# Altium footprint library Magnetics$.PcbLib: 44 footprints (part 2 of 3)
Each footprint in its own frame and in the unit in brackets; x right, y up, seen from the top. Pads: shape width x height; smd on the part's side, far side on the other; paste and mask are expansions set on the pad; w line width, h text height; cw(c..) or ccw(c..) is an arc to the next point about the centre after c.
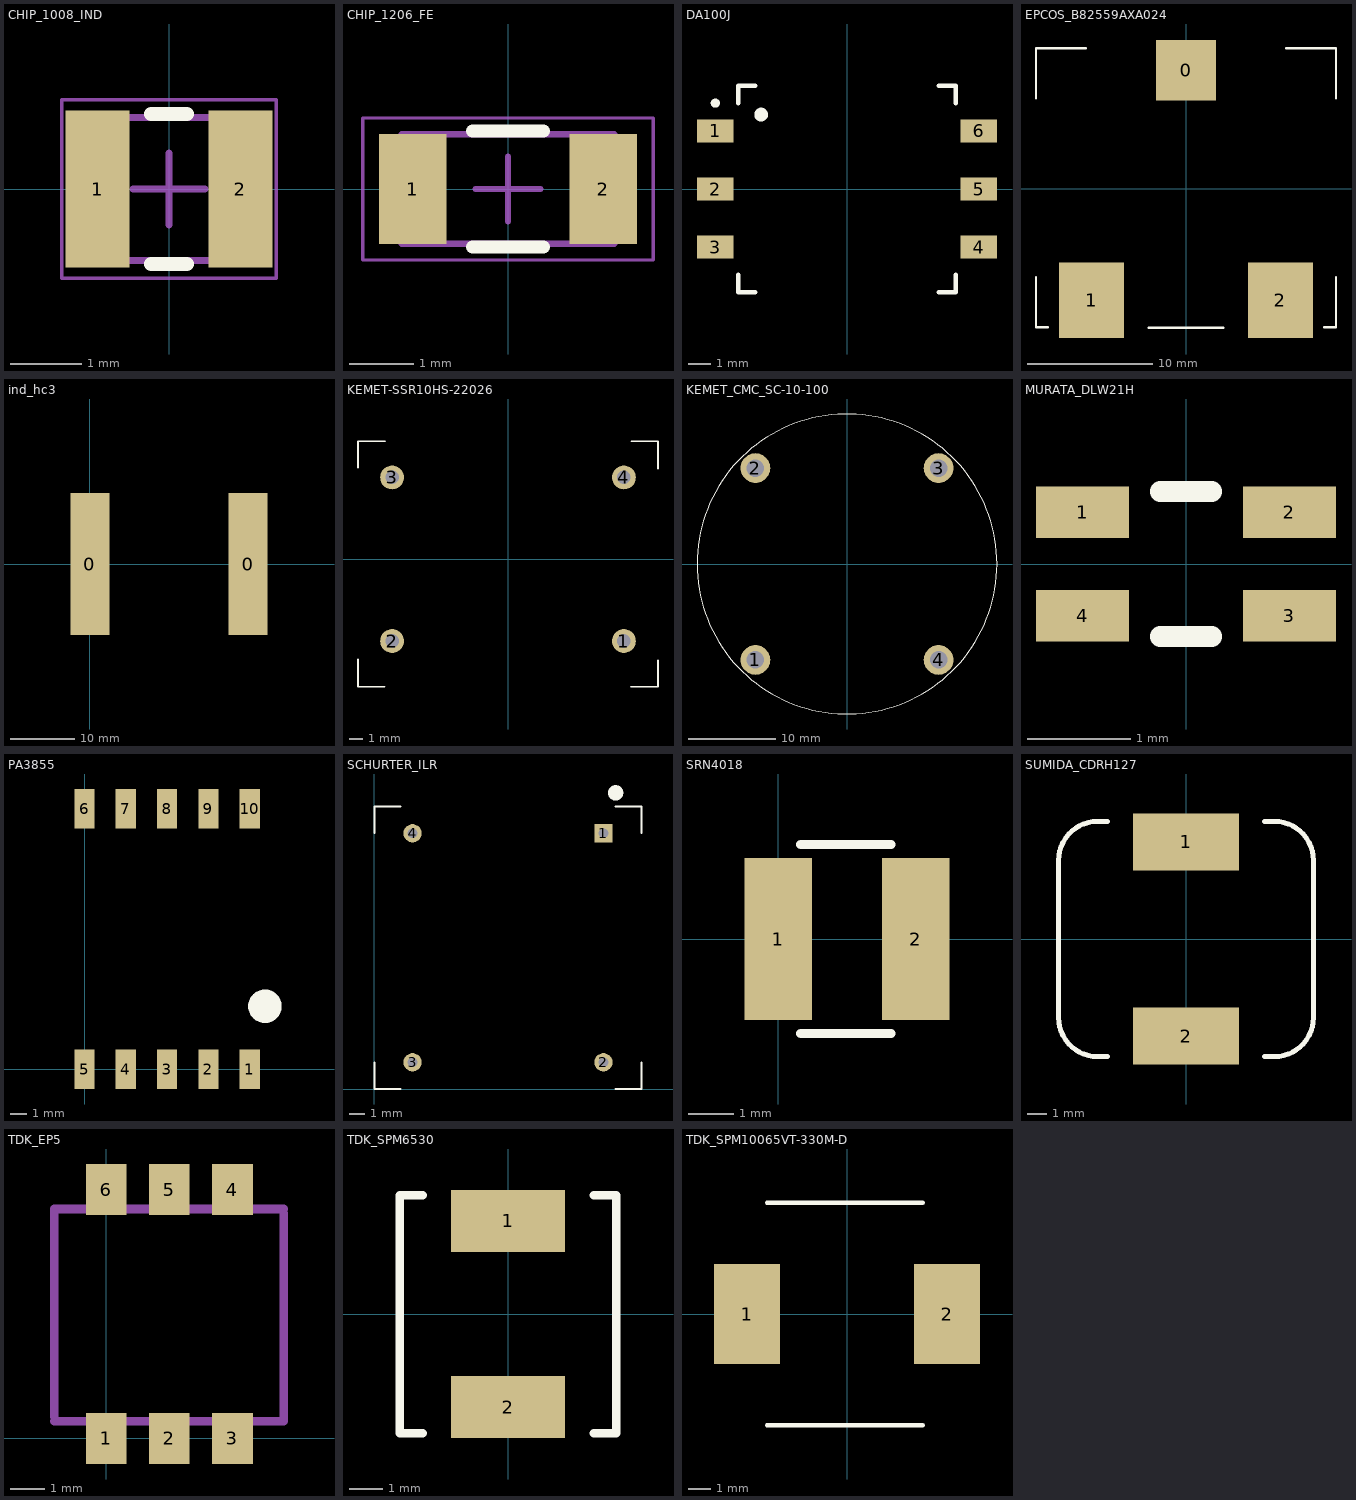
[diagram p1: the footprints below, top view; thin cyan lines are the x and y axes]

## CHIP_1008_IND [mm]
height 0.6
pads (2):
  rect 0.9x2.2 smd: 1(-1,0) 2(1,0)
Top Overlay:
  lines w0.2: -0.25,-1.05 0.25,-1.05 ; -0.25,1.05 0.25,1.05
Mechanical 13:
  lines w0.1: -1.25,-1 1.25,-1 1.25,1 -1.25,1 -1.25,-1
Mechanical 15:
  lines w0.05: -1.5,-1.25 1.5,-1.25 1.5,1.25 -1.5,1.25 -1.5,-1.25
  lines w0.1: -0.5,0 0.5,0 ; 0,-0.5 0,0.5
3D body: height 0.9, standoff 0, extent 0.65,-1 1.25,1
3D body: height 0.9, standoff 0, extent -1.25,-1 -0.65,1
3D body: height 0.85, standoff 0.03, extent -0.65,-0.975 0.65,0.975

## CHIP_1206_FE [mm] "1206 Ferrite Bead"
height 0.6
pads (2):
  rect 1.05x1.7 smd: 1(-1.475,0) 2(1.475,0)
Top Overlay:
  lines w0.2: -0.55,-0.9 0.55,-0.9 ; -0.55,0.9 0.55,0.9
Mechanical 13:
  lines w0.1: -1.65,-0.85 -1.65,0.85 1.65,0.85 1.65,-0.85 -1.65,-0.85
Mechanical 15:
  lines w0.05: -2.25,-1.1 -2.25,1.1 2.25,1.1 2.25,-1.1 -2.25,-1.1
  lines w0.1: -0.5,0 0.5,0 ; 0,-0.5 0,0.5
3D body: height 1.68, standoff 0, extent -1.15,-0.825 1.15,0.825
3D body: height 1.7, standoff 0, extent -1.65,-0.85 -1.15,0.85
3D body: height 1.7, standoff 0, extent 1.15,-0.85 1.65,0.85

## DA100J [mm] "Murata DA100J Pulse Transformer Series"
pads (6):
  rect 1.6x1 smd: 1(-5.75,2.54) 2(-5.75,0) 3(-5.75,-2.54) 4(5.75,-2.54) 5(5.75,0) 6(5.75,2.54)
Top Overlay:
  circle w0.2: c-5.75,3.75 r0.1
  circle w0.3: c-3.75,3.25 r0.15
  lines w0.2: -4.75,-3.75 -4.75,-4.5 -4,-4.5 ; -4.75,3.75 -4.75,4.5 -4,4.5 ; 4,-4.5 4.75,-4.5 4.75,-3.75 ; 4,4.5 4.75,4.5 4.75,3.75
3D body: height 6.5, standoff 0, extent -4.75,-4.5 4.75,4.5

## EPCOS_B82559AXA024 [mm]
pads (3):
  rect 4.8x4.8 smd: 0(0,9.5)
  rect 5.2x6 smd: 1(-7.55,-8.9) 2(7.55,-8.9)
Top Overlay:
  lines w0.2: -12,-7.05 -12,-11.05 -11.05,-11.05 ; -12,7.25 -12,11.25 -8,11.25 ; -3,-11.1 3,-11.1 ; 8,11.25 12,11.25 12,7.25 ; 11.05,-11.05 12,-11.05 12,-7.05
3D body "New ERU 24.stp": height 21.2, standoff -0.01, extent -11.95,-11.05 11.95,11.2

## ind_hc3 [mm] "Cooper-Eaton HC3 Indcutors"
height 18
pads (2):
  rect 6x22 all layers, no hole: 0(0,0) 0(24.5,0)

## KEMET-SSR10HS-22026 [mm] "Kemet Common Mode Choke"
pads (4):
  round 1.75 hole 1: 1(8.5,-6) 2(-8.5,-6) 3(-8.5,6) 4(8.5,6)
Top Overlay:
  lines w0.127: -11,-7.35 -11,-9.35 -9.05,-9.35 ; -11,6.7 -11,8.65 -9,8.65 ; 9,-9.35 11,-9.35 11,-7.4 ; 9.05,8.65 11,8.65 11,6.65
3D body "SSR10HS-22026.step": height 13.85, standoff -3.15, extent -11,-9.35 11,8.65

## KEMET_CMC_SC-10-100 [mm] "Kemet Common Mode Choke"
pads (4):
  round 3.4 hole 2: 1(-10.5,-11) 2(-10.5,11) 3(10.5,11) 4(10.5,-11)
Top Overlay:
  circle w0.127: c0,0 r17.2

## MURATA_DLW21H [mm] "Murata DLW21H series CMC"
pads (4):
  rect 0.9x0.5 smd: 1(-1,0.5) 2(1,0.5) 3(1,-0.5) 4(-1,-0.5)
Top Overlay:
  lines w0.2: -0.25,-0.7 0.25,-0.7 ; -0.25,0.7 0.25,0.7
3D body "IND_DLW21H_0805_MUR.step": height 1, standoff 0, extent -1.1,-0.7 1.1,0.7

## PA3855 [mm] "PA3855 and PA3856 Transformers"
height 14
pads (10):
  rect 1.22x2.4 all layers, no hole: 1(10,0) 2(7.5,0) 3(5,0) 4(2.5,0) 5(0,0) 6(0,15.76) 7(2.5,15.76) 8(5,15.76) 9(7.5,15.76) 10(10,15.76)
Top Overlay:
  circle w1.016: c10.922,3.81 r0.508

## PCBComponent_1 [mm]

## SCHURTER_ILR [mm] "Schurter ILR series Transformers"
pads (4):
  rect 1.2x1.2 hole 0.65: 1(15,16.75)
  round 1.2 hole 0.65: 2(15,1.75) 3(2.5,1.75) 4(2.5,16.75)
Top Overlay:
  circle w0.5: c15.8,19.4 r0.25
  lines w0.127: 0,1.75 0,0 1.7,0 ; 0,16.75 0,18.5 1.7,18.5 ; 15.8,0 17.5,0 17.5,1.75 ; 15.8,18.5 17.5,18.5 17.5,16.75
3D body: height 11.5, standoff 0, extent 0,0 17.5,18.5

## SRN4018 [mm] "Bourns SRN4018 Series"
pads (2):
  rect 1.5x3.6 smd: 1(0,0) 2(3.05,0)
Top Overlay:
  lines w0.2: 0.5,-2.1 2.5,-2.1 ; 0.5,2.1 2.5,2.1
3D body "srn4018.stp": height 1.79, standoff -0.01, extent -0.7,-2 3.7,2

## SUMIDA_CDRH127 [mm] "Sumida CDRH127"
pads (2):
  rect 5.4x2.9 smd: 1(0,4.95) 2(0,-4.95)
Top Overlay:
  lines w0.254: -4.5,6 ccw(c-4.5,4) -6.5,4 -6.5,-4 ccw(c-4.5,-4) -4.5,-6 -4,-6 ; -4.5,6 -4,6 ; 4,-6 4.5,-6 ccw(c4.5,-4) 6.5,-4 6.5,4 ccw(c4.5,4) 4.5,6 ; 4,6 4.5,6
3D body: height 8, standoff 0, extent -6.5,-6 6.5,6

## TDK_EP5 [mm]
pads (6):
  rect 1.2x1.5 smd: 1(0,0) 2(1.85,0) 3(3.7,0) 4(3.7,7.3) 5(1.85,7.3) 6(0,7.3)
Mechanical 1:
  lines w0.254: -1.524,0.508 5.176,0.508 ; -1.524,0.635 -1.524,6.735 ; -1.493,6.731 5.207,6.731 ; 5.207,0.504 5.207,6.604

## TDK_SPM6530 [mm] "TDK SPM6530 type footprint"
pads (2):
  rect 3.4x1.85 smd: 1(0,2.775) 2(0,-2.775)
Top Overlay:
  lines w0.254: -2.54,-3.556 -3.226,-3.556 -3.226,3.544 -2.54,3.544 ; 2.552,-3.556 3.226,-3.556 3.226,3.544 ; 2.552,3.544 3.175,3.544

## TDK_SPM10065VT-330M-D [mm]
pads (2):
  rect 2.95x4.5 smd: 1(-4.5,0) 2(4.5,0)
Top Overlay:
  lines w0.2: -3.6,-5 3.4,-5 ; -3.6,5 3.4,5
3D body: height 6.5, standoff 0, extent -5.25,-5 5.3,5